# EAGLE library part TVP5150AM1 (library video)
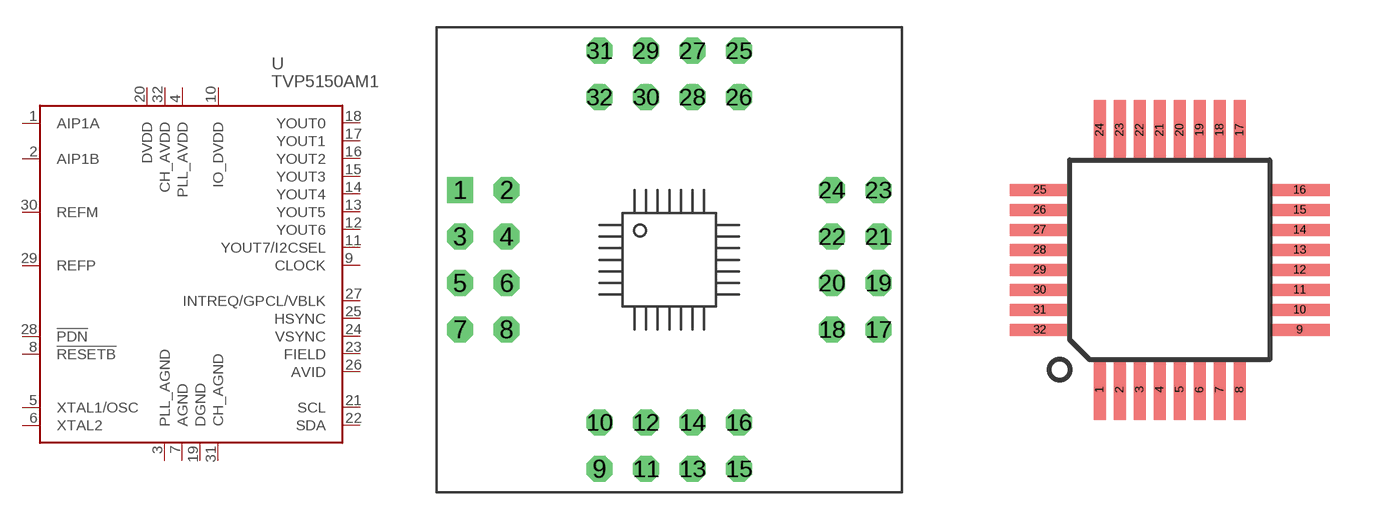
[diagram p1: symbol with the pads of QFP32_DIP; footprints QFP32_DIP, TQFP32-05]

Designator prefix U

## TVP5150AM1D  [QFP32_DIP]
1  AIP1A
2  AIP1B
3  PLL_AGND
4  PLL_AVDD
5  XTAL1/OSC
6  XTAL2
7  AGND
8  !RESETB
9  CLOCK
10  IO_DVDD
11  YOUT7/I2CSEL
12  YOUT6
13  YOUT5
14  YOUT4
15  YOUT3
16  YOUT2
17  YOUT1
18  YOUT0
19  DGND
20  DVDD
21  SCL
22  SDA
23  FIELD
24  VSYNC
25  HSYNC
26  AVID
27  INTREQ/GPCL/VBLK
28  !PDN
29  REFP
30  REFM
31  CH_AGND
32  CH_AVDD

## TVP5150AM1T (PACKAGE: TQFP32)  [TQFP32-05]
Pads as for QFP32_DIP

## Footprint QFP32_DIP (pad centres in mm)
drill 0.7 pad 1.422 square: 1 -11.43,3.81
drill 0.7 pad 1.422 octagon: 2 -8.89,3.81; 3 -11.43,1.27; 4 -8.89,1.27; 5 -11.43,-1.27; 6 -8.89,-1.27; 7 -11.43,-3.81; 8 -8.89,-3.81; 9 -3.81,-11.43; 10 -3.81,-8.89; 11 -1.27,-11.43; 12 -1.27,-8.89; 13 1.27,-11.43; 14 1.27,-8.89; 15 3.81,-11.43; 16 3.81,-8.89; 17 11.43,-3.81; 18 8.89,-3.81; 19 11.43,-1.27; 20 8.89,-1.27; 21 11.43,1.27; 22 8.89,1.27; 23 11.43,3.81; 24 8.89,3.81; 25 3.81,11.43; 26 3.81,8.89; 27 1.27,11.43; 28 1.27,8.89; 29 -1.27,11.43; 30 -1.27,8.89; 31 -3.81,11.43; 32 -3.81,8.89

## Footprint TQFP32-05 (pad centres in mm)
Thin Plasic Quad Flat Package Grid 0.8 mm
smd 0.3 x 1.5: 1 -1.75,-3.25; 2 -1.25,-3.25; 3 -0.75,-3.25; 4 -0.25,-3.25; 5 0.25,-3.25; 6 0.75,-3.25; 7 1.25,-3.25; 8 1.75,-3.25; 17 1.75,3.25; 18 1.25,3.25; 19 0.75,3.25; 20 0.25,3.25; 21 -0.25,3.25; 22 -0.75,3.25; 23 -1.25,3.25; 24 -1.75,3.25
smd 1.5 x 0.3: 9 3.25,-1.75; 10 3.25,-1.25; 11 3.25,-0.75; 12 3.25,-0.25; 13 3.25,0.25; 14 3.25,0.75; 15 3.25,1.25; 16 3.25,1.75; 25 -3.25,1.75; 26 -3.25,1.25; 27 -3.25,0.75; 28 -3.25,0.25; 29 -3.25,-0.25; 30 -3.25,-0.75; 31 -3.25,-1.25; 32 -3.25,-1.75